# Altium schematic symbol library Discreate.SchLib: 9 symbols
Pins are listed as number, name and electrical type; pins without a type are passive.

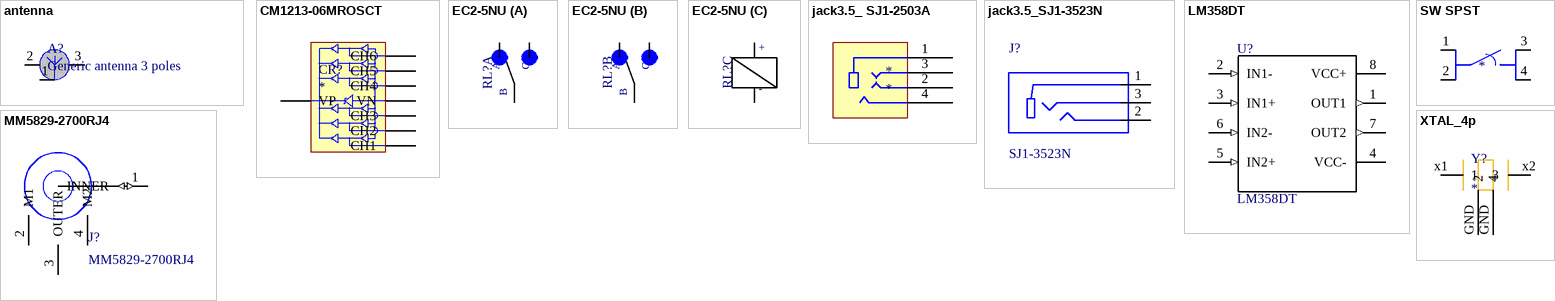
[diagram p0: symbols antenna to XTAL_4p]

## antenna
designator A?, comment Generic antenna 3 poles  (no BOM)
pins: 1, 2, 3

## CM1213-06MROSCT
designator CR?
6 and 8-Channel / Low Capacitance ESD / Protection Arrays; ComponentLink1Description: Datasheet; ComponentLink1URL: https://www.onsemi.com/pub/Collateral/CM1213-D.PDF
footprint SO8
pins: 1 CH1, 2 CH2, 3 VN, 4 CH3, 5 CH4, 6 CH5, 7 VP, 8 CH6

## EC2-5NU
designator RL?  (value not drawn)
Electromechanical Relay DPDT 2A 5VDC 178Ohm Through Hole; MP: EC2-5NU; MF: KEMET; Price: None; Package: None; Availability: Unavailable; SnapEDA_Link: https://www.snapeda.com/parts/EC2-5NU/KEMET/view-part/?ref=snap; Value: *
footprint *8-PIN
part A pins: 3 A, 4 B, 5 C
part B pins: 8 C, 9 B, 10 A
part C pins: 1 POS (io), 12 NEG (io)
part C text: +; -

## jack3.5_ SJ1-2503A
designator *
pins: 1 "Thermal pad, do not connect", 2 "Thermal pad, do not connect", 3 "Thermal pad, do not connect", 4 "Thermal pad, do not connect"

## jack3.5_SJ1-3523N
designator J?, comment SJ1-3523N
SJ1 Series 3.5 mm 12 V Right Angle Through Hole Stereo Audio Jack; MF: CUI Inc.; SnapEDA_Link: https://www.snapeda.com/parts/SJ1-3523N/CUI%20Inc./view-part/?ref=snap; MP: SJ1-3523N; Availability: Unavailable; Price: None; CUI_purchase_URL: https://www.cui.com/product/interconnect/audio-connectors/jacks/3.5-mm-jacks/sj1-352xn-series?utm_source=snapeda.com&utm_medium=referral&utm_campaign=snapedaBOM; Package: None; Value: *
footprint *CUI_SJ1-3523N
pins: 1, 2, 3

## LM358DT
designator U?
LM358 Series 30 V 1.1 MHz Low Power Dual Operational Amplifier - SOIC-8; MF: STMicroelectronics; Price: None; Availability: Unavailable; Package: SOIC-8 STMicroelectronics; MP: LM358DT; SnapEDA_Link: https://www.snapeda.com/parts/LM358DT/STMicroelectronics/view-part/?ref=snap; Value: *
footprint *SOIC127P600X175-8N
pins: 1 OUT1 (out), 2 IN1- (in), 3 IN1+ (in), 4 VCC- (power), 5 IN2+ (in), 6 IN2- (in), 7 OUT2 (out), 8 VCC+ (power)

## MM5829-2700RJ4
designator J?
Conn Coaxial RCP 0Hz to 12GHz 50Ohm Solder ST SMD Gold; MF: Murata; SnapEDA_Link: https://www.snapeda.com/parts/MM5829-2700RJ4/Murata%20Electronics%20North%20America/view-part/?ref=snap; Digi-Key_Purchase_URL: https://www.digikey.it/product-detail/en/murata-electronics-north-america/MM5829-2700RJ4/490-5894-1-ND/3528184?utm_source=snapeda&utm_medium=aggregator&utm_campaign=symbol; Digi-Key_Part_Number: 490-5894-1-ND; Package: None; MP: MM5829-2700RJ4; Value: *
footprint *MURATA_MM5829-2700RJ4
pins: 1 INNER (io), 2 M1, 3 OUTER, 4 M2

## SW SPST
designator ?
footprint SWITCH TACTILE SPST-NO
pins: 1, 2, 3, 4

## XTAL_4p
designator Y?
MHz Range Crystal Unit Miniature Size Low Profile SMD
pins: GND 2 (power), GND 4 (power), x1 1, x2 3